# Altium schematic symbol library SCH - MCU - STM32 - ST MICROELECTRONICS STM32H747BGTX LQFP208.SchLib: 1 symbol
Pins are listed as number, name and electrical type; pins without a type are passive.

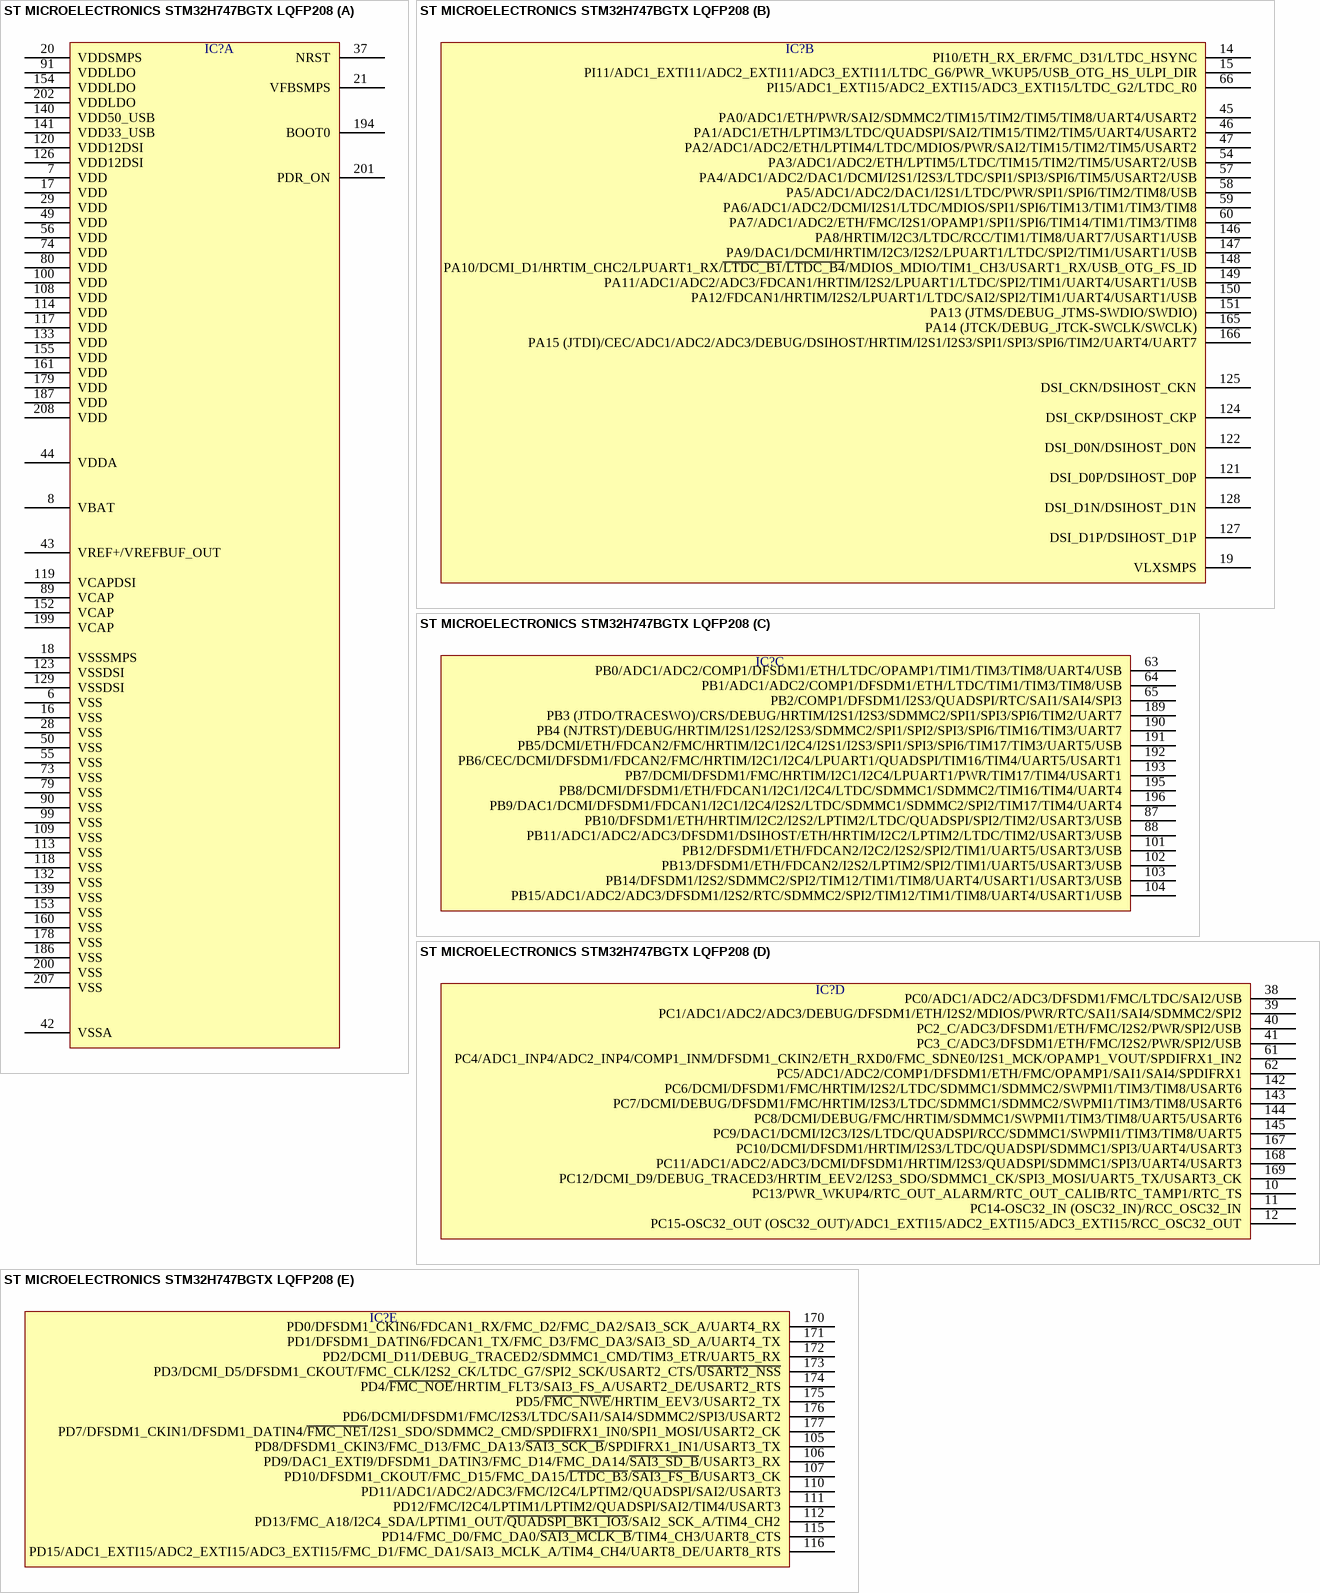
[diagram p0: symbol ST MICROELECTRONICS STM32H747BGTX LQFP208]

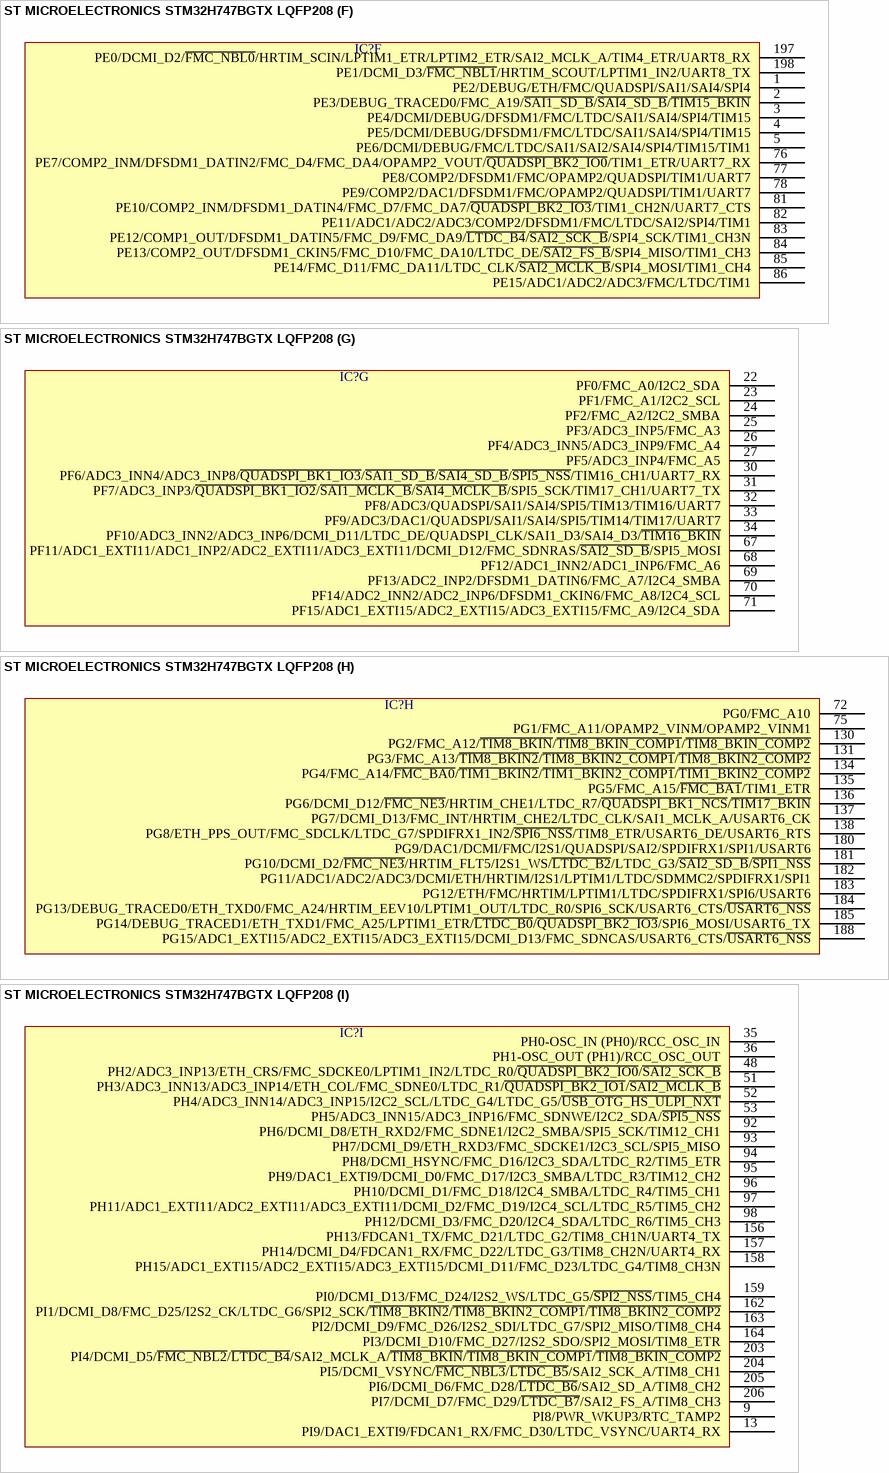
[diagram p1: symbol ST MICROELECTRONICS STM32H747BGTX LQFP208]

## ST MICROELECTRONICS STM32H747BGTX LQFP208
designator IC?  (value not drawn)
part A pins: 6 VSS, 7 VDD, 8 VBAT, 16 VSS, 17 VDD, 18 VSSSMPS, 20 VDDSMPS, 21 VFBSMPS, 28 VSS, 29 VDD, 37 NRST, 42 VSSA, 43 VREF+/VREFBUF_OUT, 44 VDDA, 49 VDD, 50 VSS, 55 VSS, 56 VDD, 73 VSS, 74 VDD, 79 VSS, 80 VDD, 89 VCAP, 90 VSS, 91 VDDLDO, 99 VSS, 100 VDD, 108 VDD, 109 VSS, 113 VSS, 114 VDD, 117 VDD, 118 VSS, 119 VCAPDSI, 120 VDD12DSI, 123 VSSDSI, 126 VDD12DSI, 129 VSSDSI, 132 VSS, 133 VDD, 139 VSS, 140 VDD50_USB, 141 VDD33_USB, 152 VCAP, 153 VSS, 154 VDDLDO, 155 VDD, 160 VSS, 161 VDD, 178 VSS, 179 VDD, 186 VSS, 187 VDD, 194 BOOT0, 199 VCAP, 200 VSS, 201 PDR_ON, 202 VDDLDO, 207 VSS, 208 VDD
part B pins: 14 PI10/ETH_RX_ER/FMC_D31/LTDC_HSYNC, 15 PI11/ADC1_EXTI11/ADC2_EXTI11/ADC3_EXTI11/LTDC_G6/PWR_WKUP5/USB_OTG_HS_ULPI_DIR, 19 VLXSMPS, 45 PA0/ADC1/ETH/PWR/SAI2/SDMMC2/TIM15/TIM2/TIM5/TIM8/UART4/USART2, 46 PA1/ADC1/ETH/LPTIM3/LTDC/QUADSPI/SAI2/TIM15/TIM2/TIM5/UART4/USART2, 47 PA2/ADC1/ADC2/ETH/LPTIM4/LTDC/MDIOS/PWR/SAI2/TIM15/TIM2/TIM5/USART2, 54 PA3/ADC1/ADC2/ETH/LPTIM5/LTDC/TIM15/TIM2/TIM5/USART2/USB, 57 PA4/ADC1/ADC2/DAC1/DCMI/I2S1/I2S3/LTDC/SPI1/SPI3/SPI6/TIM5/USART2/USB, 58 PA5/ADC1/ADC2/DAC1/I2S1/LTDC/PWR/SPI1/SPI6/TIM2/TIM8/USB, 59 PA6/ADC1/ADC2/DCMI/I2S1/LTDC/MDIOS/SPI1/SPI6/TIM13/TIM1/TIM3/TIM8, 60 PA7/ADC1/ADC2/ETH/FMC/I2S1/OPAMP1/SPI1/SPI6/TIM14/TIM1/TIM3/TIM8, 66 PI15/ADC1_EXTI15/ADC2_EXTI15/ADC3_EXTI15/LTDC_G2/LTDC_R0, 121 DSI_D0P/DSIHOST_D0P, 122 DSI_D0N/DSIHOST_D0N, 124 DSI_CKP/DSIHOST_CKP, 125 DSI_CKN/DSIHOST_CKN, 127 DSI_D1P/DSIHOST_D1P, 128 DSI_D1N/DSIHOST_D1N, 146 PA8/HRTIM/I2C3/LTDC/RCC/TIM1/TIM8/UART7/USART1/USB, 147 PA9/DAC1/DCMI/HRTIM/I2C3/I2S2/LPUART1/LTDC/SPI2/TIM1/USART1/USB, 148 PA10/DCMI_D1/HRTIM_CHC2/LPUART1_RX/~{LTDC_B1}/~{LTDC_B4}/MDIOS_MDIO/TIM1_CH3/USART1_RX/USB_OTG_FS_ID, 149 PA11/ADC1/ADC2/ADC3/FDCAN1/HRTIM/I2S2/LPUART1/LTDC/SPI2/TIM1/UART4/USART1/USB, 150 PA12/FDCAN1/HRTIM/I2S2/LPUART1/LTDC/SAI2/SPI2/TIM1/UART4/USART1/USB, 151 PA13 (JTMS/DEBUG_JTMS-SWDIO/SWDIO), 165 PA14 (JTCK/DEBUG_JTCK-SWCLK/SWCLK), 166 PA15 (JTDI)/CEC/ADC1/ADC2/ADC3/DEBUG/DSIHOST/HRTIM/I2S1/I2S3/SPI1/SPI3/SPI6/TIM2/UART4/UART7
part C pins: 63 PB0/ADC1/ADC2/COMP1/DFSDM1/ETH/LTDC/OPAMP1/TIM1/TIM3/TIM8/UART4/USB, 64 PB1/ADC1/ADC2/COMP1/DFSDM1/ETH/LTDC/TIM1/TIM3/TIM8/USB, 65 PB2/COMP1/DFSDM1/I2S3/QUADSPI/RTC/SAI1/SAI4/SPI3, 87 PB10/DFSDM1/ETH/HRTIM/I2C2/I2S2/LPTIM2/LTDC/QUADSPI/SPI2/TIM2/USART3/USB, 88 PB11/ADC1/ADC2/ADC3/DFSDM1/DSIHOST/ETH/HRTIM/I2C2/LPTIM2/LTDC/TIM2/USART3/USB, 101 PB12/DFSDM1/ETH/FDCAN2/I2C2/I2S2/SPI2/TIM1/UART5/USART3/USB, 102 PB13/DFSDM1/ETH/FDCAN2/I2S2/LPTIM2/SPI2/TIM1/UART5/USART3/USB, 103 PB14/DFSDM1/I2S2/SDMMC2/SPI2/TIM12/TIM1/TIM8/UART4/USART1/USART3/USB, 104 PB15/ADC1/ADC2/ADC3/DFSDM1/I2S2/RTC/SDMMC2/SPI2/TIM12/TIM1/TIM8/UART4/USART1/USB, 189 PB3 (JTDO/TRACESWO)/CRS/DEBUG/HRTIM/I2S1/I2S3/SDMMC2/SPI1/SPI3/SPI6/TIM2/UART7, 190 PB4 (NJTRST)/DEBUG/HRTIM/I2S1/I2S2/I2S3/SDMMC2/SPI1/SPI2/SPI3/SPI6/TIM16/TIM3/UART7, 191 PB5/DCMI/ETH/FDCAN2/FMC/HRTIM/I2C1/I2C4/I2S1/I2S3/SPI1/SPI3/SPI6/TIM17/TIM3/UART5/USB, 192 PB6/CEC/DCMI/DFSDM1/FDCAN2/FMC/HRTIM/I2C1/I2C4/LPUART1/QUADSPI/TIM16/TIM4/UART5/USART1, 193 PB7/DCMI/DFSDM1/FMC/HRTIM/I2C1/I2C4/LPUART1/PWR/TIM17/TIM4/USART1, 195 PB8/DCMI/DFSDM1/ETH/FDCAN1/I2C1/I2C4/LTDC/SDMMC1/SDMMC2/TIM16/TIM4/UART4, 196 PB9/DAC1/DCMI/DFSDM1/FDCAN1/I2C1/I2C4/I2S2/LTDC/SDMMC1/SDMMC2/SPI2/TIM17/TIM4/UART4
part D pins: 10 PC13/PWR_WKUP4/RTC_OUT_ALARM/RTC_OUT_CALIB/RTC_TAMP1/RTC_TS, 11 PC14-OSC32_IN (OSC32_IN)/RCC_OSC32_IN, 12 PC15-OSC32_OUT (OSC32_OUT)/ADC1_EXTI15/ADC2_EXTI15/ADC3_EXTI15/RCC_OSC32_OUT, 38 PC0/ADC1/ADC2/ADC3/DFSDM1/FMC/LTDC/SAI2/USB, 39 PC1/ADC1/ADC2/ADC3/DEBUG/DFSDM1/ETH/I2S2/MDIOS/PWR/RTC/SAI1/SAI4/SDMMC2/SPI2, 40 PC2_C/ADC3/DFSDM1/ETH/FMC/I2S2/PWR/SPI2/USB, 41 PC3_C/ADC3/DFSDM1/ETH/FMC/I2S2/PWR/SPI2/USB, 61 PC4/ADC1_INP4/ADC2_INP4/COMP1_INM/DFSDM1_CKIN2/ETH_RXD0/FMC_SDNE0/I2S1_MCK/OPAMP1_VOUT/SPDIFRX1_IN2, 62 PC5/ADC1/ADC2/COMP1/DFSDM1/ETH/FMC/OPAMP1/SAI1/SAI4/SPDIFRX1, 142 PC6/DCMI/DFSDM1/FMC/HRTIM/I2S2/LTDC/SDMMC1/SDMMC2/SWPMI1/TIM3/TIM8/USART6, 143 PC7/DCMI/DEBUG/DFSDM1/FMC/HRTIM/I2S3/LTDC/SDMMC1/SDMMC2/SWPMI1/TIM3/TIM8/USART6, 144 PC8/DCMI/DEBUG/FMC/HRTIM/SDMMC1/SWPMI1/TIM3/TIM8/UART5/USART6, 145 PC9/DAC1/DCMI/I2C3/I2S/LTDC/QUADSPI/RCC/SDMMC1/SWPMI1/TIM3/TIM8/UART5, 167 PC10/DCMI/DFSDM1/HRTIM/I2S3/LTDC/QUADSPI/SDMMC1/SPI3/UART4/USART3, 168 PC11/ADC1/ADC2/ADC3/DCMI/DFSDM1/HRTIM/I2S3/QUADSPI/SDMMC1/SPI3/UART4/USART3, 169 PC12/DCMI_D9/DEBUG_TRACED3/HRTIM_EEV2/I2S3_SDO/SDMMC1_CK/SPI3_MOSI/UART5_TX/USART3_CK
part E pins: 105 PD8/DFSDM1_CKIN3/FMC_D13/FMC_DA13/~{SAI3_SCK_B}/SPDIFRX1_IN1/USART3_TX, 106 PD9/DAC1_EXTI9/DFSDM1_DATIN3/FMC_D14/FMC_DA14/~{SAI3_SD_B}/USART3_RX, 107 PD10/DFSDM1_CKOUT/FMC_D15/FMC_DA15/~{LTDC_B3}/~{SAI3_FS_B}/USART3_CK, 110 PD11/ADC1/ADC2/ADC3/FMC/I2C4/LPTIM2/QUADSPI/SAI2/USART3, 111 PD12/FMC/I2C4/LPTIM1/LPTIM2/QUADSPI/SAI2/TIM4/USART3, 112 PD13/FMC_A18/I2C4_SDA/LPTIM1_OUT/~{QUADSPI_BK1_IO3}/SAI2_SCK_A/TIM4_CH2, 115 PD14/FMC_D0/FMC_DA0/~{SAI3_MCLK_B}/TIM4_CH3/UART8_CTS, 116 PD15/ADC1_EXTI15/ADC2_EXTI15/ADC3_EXTI15/FMC_D1/FMC_DA1/SAI3_MCLK_A/TIM4_CH4/UART8_DE/UART8_RTS, 170 PD0/DFSDM1_CKIN6/FDCAN1_RX/FMC_D2/FMC_DA2/SAI3_SCK_A/UART4_RX, 171 PD1/DFSDM1_DATIN6/FDCAN1_TX/FMC_D3/FMC_DA3/SAI3_SD_A/UART4_TX, 172 PD2/DCMI_D11/DEBUG_TRACED2/SDMMC1_CMD/TIM3_ETR/UART5_RX, 173 PD3/DCMI_D5/DFSDM1_CKOUT/FMC_CLK/I2S2_CK/LTDC_G7/SPI2_SCK/USART2_CTS/~{USART2_NSS}, 174 PD4/~{FMC_NOE}/HRTIM_FLT3/SAI3_FS_A/USART2_DE/USART2_RTS, 175 PD5/~{FMC_NWE}/HRTIM_EEV3/USART2_TX, 176 PD6/DCMI/DFSDM1/FMC/I2S3/LTDC/SAI1/SAI4/SDMMC2/SPI3/USART2, 177 PD7/DFSDM1_CKIN1/DFSDM1_DATIN4/~{FMC_NE1}/I2S1_SDO/SDMMC2_CMD/SPDIFRX1_IN0/SPI1_MOSI/USART2_CK
part F pins: 1 PE2/DEBUG/ETH/FMC/QUADSPI/SAI1/SAI4/SPI4, 2 PE3/DEBUG_TRACED0/FMC_A19/~{SAI1_SD_B}/~{SAI4_SD_B}/~{TIM15_BKIN}, 3 PE4/DCMI/DEBUG/DFSDM1/FMC/LTDC/SAI1/SAI4/SPI4/TIM15, 4 PE5/DCMI/DEBUG/DFSDM1/FMC/LTDC/SAI1/SAI4/SPI4/TIM15, 5 PE6/DCMI/DEBUG/FMC/LTDC/SAI1/SAI2/SAI4/SPI4/TIM15/TIM1, 76 PE7/COMP2_INM/DFSDM1_DATIN2/FMC_D4/FMC_DA4/OPAMP2_VOUT/~{QUADSPI_BK2_IO0}/TIM1_ETR/UART7_RX, 77 PE8/COMP2/DFSDM1/FMC/OPAMP2/QUADSPI/TIM1/UART7, 78 PE9/COMP2/DAC1/DFSDM1/FMC/OPAMP2/QUADSPI/TIM1/UART7, 81 PE10/COMP2_INM/DFSDM1_DATIN4/FMC_D7/FMC_DA7/~{QUADSPI_BK2_IO3}/TIM1_CH2N/UART7_CTS, 82 PE11/ADC1/ADC2/ADC3/COMP2/DFSDM1/FMC/LTDC/SAI2/SPI4/TIM1, 83 PE12/COMP1_OUT/DFSDM1_DATIN5/FMC_D9/FMC_DA9/~{LTDC_B4}/~{SAI2_SCK_B}/SPI4_SCK/TIM1_CH3N, 84 PE13/COMP2_OUT/DFSDM1_CKIN5/FMC_D10/FMC_DA10/LTDC_DE/~{SAI2_FS_B}/SPI4_MISO/TIM1_CH3, 85 PE14/FMC_D11/FMC_DA11/LTDC_CLK/~{SAI2_MCLK_B}/SPI4_MOSI/TIM1_CH4, 86 PE15/ADC1/ADC2/ADC3/FMC/LTDC/TIM1, 197 PE0/DCMI_D2/~{FMC_NBL0}/HRTIM_SCIN/LPTIM1_ETR/LPTIM2_ETR/SAI2_MCLK_A/TIM4_ETR/UART8_RX, 198 PE1/DCMI_D3/~{FMC_NBL1}/HRTIM_SCOUT/LPTIM1_IN2/UART8_TX
part G pins: 22 PF0/FMC_A0/I2C2_SDA, 23 PF1/FMC_A1/I2C2_SCL, 24 PF2/FMC_A2/I2C2_SMBA, 25 PF3/ADC3_INP5/FMC_A3, 26 PF4/ADC3_INN5/ADC3_INP9/FMC_A4, 27 PF5/ADC3_INP4/FMC_A5, 30 PF6/ADC3_INN4/ADC3_INP8/~{QUADSPI_BK1_IO3}/~{SAI1_SD_B}/~{SAI4_SD_B}/~{SPI5_NSS}/TIM16_CH1/UART7_RX, 31 PF7/ADC3_INP3/~{QUADSPI_BK1_IO2}/~{SAI1_MCLK_B}/~{SAI4_MCLK_B}/SPI5_SCK/TIM17_CH1/UART7_TX, 32 PF8/ADC3/QUADSPI/SAI1/SAI4/SPI5/TIM13/TIM16/UART7, 33 PF9/ADC3/DAC1/QUADSPI/SAI1/SAI4/SPI5/TIM14/TIM17/UART7, 34 PF10/ADC3_INN2/ADC3_INP6/DCMI_D11/LTDC_DE/QUADSPI_CLK/SAI1_D3/SAI4_D3/~{TIM16_BKIN}, 67 PF11/ADC1_EXTI11/ADC1_INP2/ADC2_EXTI11/ADC3_EXTI11/DCMI_D12/FMC_SDNRAS/~{SAI2_SD_B}/SPI5_MOSI, 68 PF12/ADC1_INN2/ADC1_INP6/FMC_A6, 69 PF13/ADC2_INP2/DFSDM1_DATIN6/FMC_A7/I2C4_SMBA, 70 PF14/ADC2_INN2/ADC2_INP6/DFSDM1_CKIN6/FMC_A8/I2C4_SCL, 71 PF15/ADC1_EXTI15/ADC2_EXTI15/ADC3_EXTI15/FMC_A9/I2C4_SDA
part H pins: 72 PG0/FMC_A10, 75 PG1/FMC_A11/OPAMP2_VINM/OPAMP2_VINM1, 130 PG2/FMC_A12/~{TIM8_BKIN}/~{TIM8_BKIN_COMP1}/~{TIM8_BKIN_COMP2}, 131 PG3/FMC_A13/~{TIM8_BKIN2}/~{TIM8_BKIN2_COMP1}/~{TIM8_BKIN2_COMP2}, 134 PG4/FMC_A14/~{FMC_BA0}/~{TIM1_BKIN2}/~{TIM1_BKIN2_COMP1}/~{TIM1_BKIN2_COMP2}, 135 PG5/FMC_A15/~{FMC_BA1}/TIM1_ETR, 136 PG6/DCMI_D12/~{FMC_NE3}/HRTIM_CHE1/LTDC_R7/~{QUADSPI_BK1_NCS}/~{TIM17_BKIN}, 137 PG7/DCMI_D13/FMC_INT/HRTIM_CHE2/LTDC_CLK/SAI1_MCLK_A/USART6_CK, 138 PG8/ETH_PPS_OUT/FMC_SDCLK/LTDC_G7/SPDIFRX1_IN2/~{SPI6_NSS}/TIM8_ETR/USART6_DE/USART6_RTS, 180 PG9/DAC1/DCMI/FMC/I2S1/QUADSPI/SAI2/SPDIFRX1/SPI1/USART6, 181 PG10/DCMI_D2/~{FMC_NE3}/HRTIM_FLT5/I2S1_WS/~{LTDC_B2}/LTDC_G3/~{SAI2_SD_B}/~{SPI1_NSS}, 182 PG11/ADC1/ADC2/ADC3/DCMI/ETH/HRTIM/I2S1/LPTIM1/LTDC/SDMMC2/SPDIFRX1/SPI1, 183 PG12/ETH/FMC/HRTIM/LPTIM1/LTDC/SPDIFRX1/SPI6/USART6, 184 PG13/DEBUG_TRACED0/ETH_TXD0/FMC_A24/HRTIM_EEV10/LPTIM1_OUT/LTDC_R0/SPI6_SCK/USART6_CTS/~{USART6_NSS}, 185 PG14/DEBUG_TRACED1/ETH_TXD1/FMC_A25/LPTIM1_ETR/~{LTDC_B0}/~{QUADSPI_BK2_IO3}/SPI6_MOSI/USART6_TX, 188 PG15/ADC1_EXTI15/ADC2_EXTI15/ADC3_EXTI15/DCMI_D13/FMC_SDNCAS/USART6_CTS/~{USART6_NSS}
part I pins: 9 PI8/PWR_WKUP3/RTC_TAMP2, 13 PI9/DAC1_EXTI9/FDCAN1_RX/FMC_D30/LTDC_VSYNC/UART4_RX, 35 PH0-OSC_IN (PH0)/RCC_OSC_IN, 36 PH1-OSC_OUT (PH1)/RCC_OSC_OUT, 48 PH2/ADC3_INP13/ETH_CRS/FMC_SDCKE0/LPTIM1_IN2/LTDC_R0/~{QUADSPI_BK2_IO0}/~{SAI2_SCK_B}, 51 PH3/ADC3_INN13/ADC3_INP14/ETH_COL/FMC_SDNE0/LTDC_R1/~{QUADSPI_BK2_IO1}/~{SAI2_MCLK_B}, 52 PH4/ADC3_INN14/ADC3_INP15/I2C2_SCL/LTDC_G4/LTDC_G5/~{USB_OTG_HS_ULPI_NXT}, 53 PH5/ADC3_INN15/ADC3_INP16/FMC_SDNWE/I2C2_SDA/~{SPI5_NSS}, 92 PH6/DCMI_D8/ETH_RXD2/FMC_SDNE1/I2C2_SMBA/SPI5_SCK/TIM12_CH1, 93 PH7/DCMI_D9/ETH_RXD3/FMC_SDCKE1/I2C3_SCL/SPI5_MISO, 94 PH8/DCMI_HSYNC/FMC_D16/I2C3_SDA/LTDC_R2/TIM5_ETR, 95 PH9/DAC1_EXTI9/DCMI_D0/FMC_D17/I2C3_SMBA/LTDC_R3/TIM12_CH2, 96 PH10/DCMI_D1/FMC_D18/I2C4_SMBA/LTDC_R4/TIM5_CH1, 97 PH11/ADC1_EXTI11/ADC2_EXTI11/ADC3_EXTI11/DCMI_D2/FMC_D19/I2C4_SCL/LTDC_R5/TIM5_CH2, 98 PH12/DCMI_D3/FMC_D20/I2C4_SDA/LTDC_R6/TIM5_CH3, 156 PH13/FDCAN1_TX/FMC_D21/LTDC_G2/TIM8_CH1N/UART4_TX, 157 PH14/DCMI_D4/FDCAN1_RX/FMC_D22/LTDC_G3/TIM8_CH2N/UART4_RX, 158 PH15/ADC1_EXTI15/ADC2_EXTI15/ADC3_EXTI15/DCMI_D11/FMC_D23/LTDC_G4/TIM8_CH3N, 159 PI0/DCMI_D13/FMC_D24/I2S2_WS/LTDC_G5/~{SPI2_NSS}/TIM5_CH4, 162 PI1/DCMI_D8/FMC_D25/I2S2_CK/LTDC_G6/SPI2_SCK/~{TIM8_BKIN2}/~{TIM8_BKIN2_COMP1}/~{TIM8_BKIN2_COMP2}, 163 PI2/DCMI_D9/FMC_D26/I2S2_SDI/LTDC_G7/SPI2_MISO/TIM8_CH4, 164 PI3/DCMI_D10/FMC_D27/I2S2_SDO/SPI2_MOSI/TIM8_ETR, 203 PI4/DCMI_D5/~{FMC_NBL2}/~{LTDC_B4}/SAI2_MCLK_A/~{TIM8_BKIN}/~{TIM8_BKIN_COMP1}/~{TIM8_BKIN_COMP2}, 204 PI5/DCMI_VSYNC/~{FMC_NBL3}/~{LTDC_B5}/SAI2_SCK_A/TIM8_CH1, 205 PI6/DCMI_D6/FMC_D28/~{LTDC_B6}/SAI2_SD_A/TIM8_CH2, 206 PI7/DCMI_D7/FMC_D29/~{LTDC_B7}/SAI2_FS_A/TIM8_CH3